# EAGLE library part BMP388 (library 1mario)
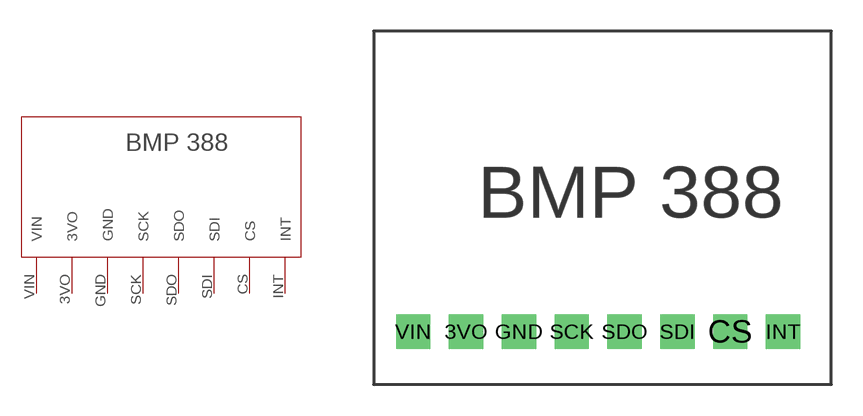
[diagram p2: symbol with the pads of BMP388; footprint BMP388]

Designator prefix -

## BMP388  [BMP388]
3VO  3VO
CS  CS
GND  GND
INT  INT
SCK  SCK
SDI  SDI
SDO  SDO
VIN  VIN

## Footprint BMP388 (pad centres in mm)
drill 1.1 square: 3VO 4.44,2.54; CS 17.14,2.54; GND 6.98,2.54; INT 19.68,2.54; SCK 9.52,2.54; SDI 14.6,2.54; SDO 12.06,2.54; VIN 1.9,2.54